# EAGLE library part CEM3320 (library CEM)
CEM 3330 VCF
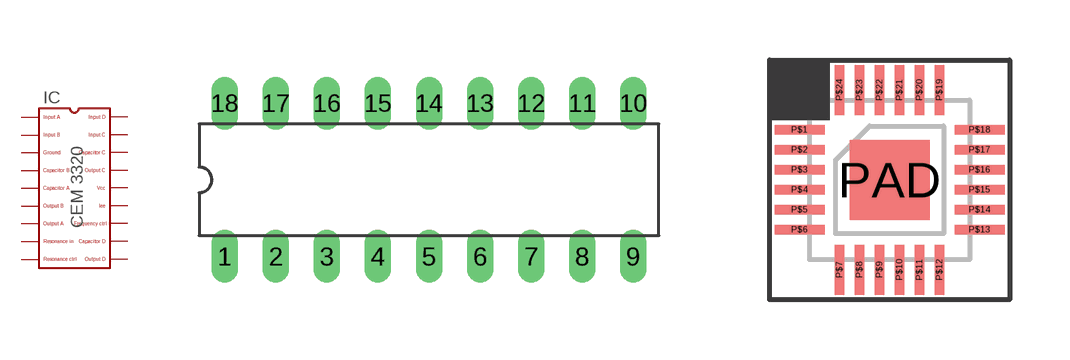
[diagram p2: symbol with the pads of DIL18; footprints DIL18, QFN24]

Designator prefix IC

## CEM3320  [DIL18]
1  1  in
2  2  in
3  3  pwr
4  4
5  5
6  6  out
7  7  out
8  8  in
9  9  in
10  10  out
11  11  out
12  12
13  13  pwr
14  14  pwr
15  15  out
16  16
17  17  in
18  18  in

## CEM3320QFN24  [QFN24]
P$2  17  in
P$3  18  in
P$4  1  in
P$5  2  in
P$7  3  pwr
P$8  4
P$9  5
P$11  6  out
P$12  7  out
P$14  8  in
P$15  9  in
P$16  10  out
P$17  11  out
P$19  12
P$20  13  pwr
P$22  14  pwr
P$23  15  out
P$24  16

## Footprint DIL18 (pad centres in mm)
Dual In Line 18
drill 0.813 long: 1 -10.16,-3.81; 2 -7.62,-3.81; 3 -5.08,-3.81; 4 -2.54,-3.81; 5 0,-3.81; 6 2.54,-3.81; 7 5.08,-3.81; 8 7.62,-3.81; 9 10.16,-3.81; 10 10.16,3.81; 11 7.62,3.81; 12 5.08,3.81; 13 2.54,3.81; 14 0,3.81; 15 -2.54,3.81; 16 -5.08,3.81; 17 -7.62,3.81; 18 -10.16,3.81

## Footprint QFN24 (pad centres in mm)
smd 1.25 x 0.23: P$1 -2.25,1.25; P$2 -2.25,0.75; P$3 -2.25,0.25; P$4 -2.25,-0.25; P$5 -2.25,-0.75; P$6 -2.25,-1.25; P$13 2.25,-1.25; P$14 2.25,-0.75; P$15 2.25,-0.25; P$16 2.25,0.25; P$17 2.25,0.75; P$18 2.25,1.25
smd 0.23 x 1.25: P$7 -1.25,-2.25; P$8 -0.75,-2.25; P$9 -0.25,-2.25; P$10 0.25,-2.25; P$11 0.75,-2.25; P$12 1.25,-2.25; P$19 1.25,2.25; P$20 0.75,2.25; P$21 0.25,2.25; P$22 -0.25,2.25; P$23 -0.75,2.25; P$24 -1.25,2.25
smd 2 x 2: PAD 0,0